# EAGLE library part MICROSD-PP (library printrbot)
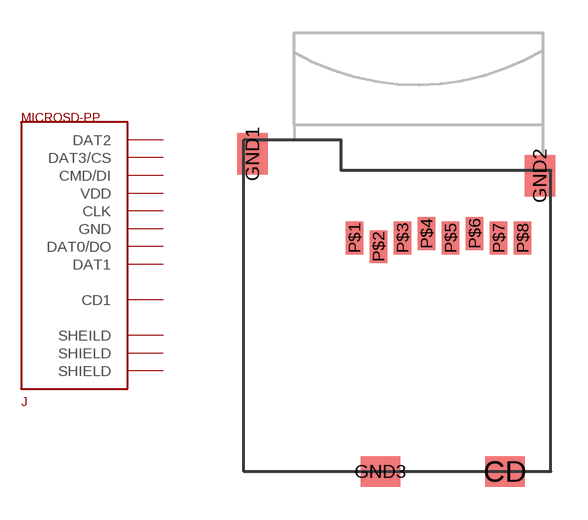
[diagram p2: symbol with the pads of USD-101-00660-68-6; footprint USD-101-00660-68-6]

Designator prefix J

## MICROSD-PP  [USD-101-00660-68-6]
CD  CD1
GND1  SHEILD  sup
GND2  SHIELD  sup
GND3  SHIELD  sup
P$1  DAT2
P$2  DAT3/CS
P$3  CMD/DI  in
P$4  VDD  pwr
P$5  CLK  in
P$6  GND  sup
P$7  DAT0/DO
P$8  DAT1

## Footprint USD-101-00660-68-6 (pad centres in mm)
smd 1.8 x 1.4: CD 11.95,0; GND3 6.25,0
smd 1.4 x 1.9: GND1 0.4,14.55; GND2 13.55,13.55
smd 0.8 x 1.5: P$1 5.06,10.7; P$2 6.16,10.3; P$3 7.26,10.7; P$4 8.36,10.9; P$5 9.46,10.7; P$6 10.56,10.9; P$7 11.66,10.7; P$8 12.76,10.7